# Altium integrated library Linear Technology Operational Amplifiers (LT2000-LT6000).IntLib: 1710 symbols (part 33 of 75)
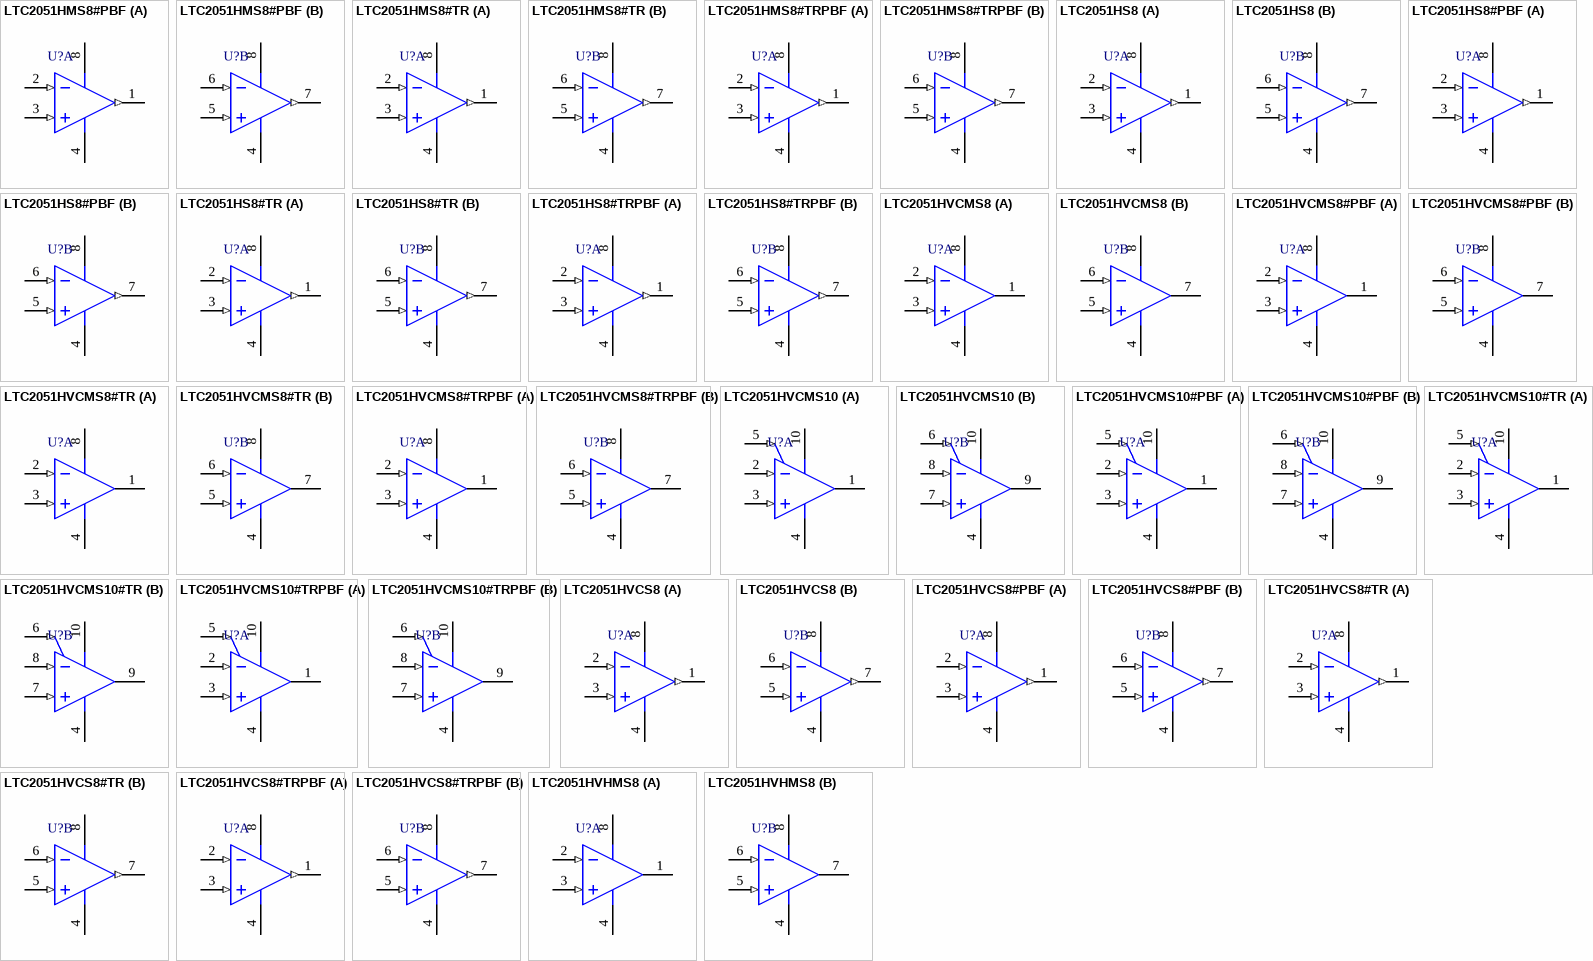
[diagram p112: symbols LTC2051HMS8#PBF to LTC2051HVHMS8]

## LTC2051HVCS8#TR
designator U?
Dual Channel, Zero-Drift Operational Amplifier, 3 MHz Typical GBW, 2 V/us Typical SR, 2.7 to 11 V, 8-Pin SOIC (S8-8), Commercial, Reel; Linear Technology Part Number: LTC2051HV; Manufacturer: Linear Technology; PartNumber: LTC2051HVCS8#TR; Channels (#): 2; GBW (MHz) Typical: 3; Is (mA) Typical: 0.85; Vos (mV) Typical: 0.0005; Vs Max (V): 11; Vs Min (V): 2.7; DatasheetVersion: Rev. D; PackageVersion: Rev G; PackageReference: LT-S8-8; PackageDescription: 8-Pin Plastic Small Outline, Body 4.9 x 3.9 mm, Pitch 1.27 mm; Supplier 1: Digi-Key; Supplier Part Number 1: LTC2051HVCS8#TR-ND; Packing: Reel; SR (V/us) Typical: 2; Type: ZD; Mounting Technology: Surface Mount; ComponentLink1Description: Manufacturer URL; ComponentLink1URL: http://www.linear.com/; ComponentLink2Description: Datasheet; ComponentLink2URL: http://cds.linear.com/docs/en/datasheet/20512fd.pdf; ComponentLink3Description: Package Specification; ComponentLink3URL: http://cds.linear.com/docs/en/packaging/05081610_G_SO8.pdf
footprint LT-S8-8_N (SOIC, 8-Leads, Body 4.9x3.9mm, Pitch 1.27mm, IPC Medium Density)
footprint LT-S8-8_L (SOIC, 8-Leads, Body 4.9x3.9mm, Pitch 1.27mm, IPC High Density)
footprint LT-S8-8_M (SOIC, 8-Leads, Body 4.9x3.9mm, Pitch 1.27mm, IPC Low Density)
pins on every part: 4 V- (power), 8 V+ (power)
part A pins: 1 OUT A (out), 2 -IN A (in), 3 +IN A (in)
part B pins: 5 +IN B (in), 6 -IN B (in), 7 OUT B (out)

## LTC2051HVCS8#TRPBF
designator U?
Dual Channel, Zero-Drift Operational Amplifier, 3 MHz Typical GBW, 2 V/us Typical SR, 2.7 to 11 V, 8-Pin SOIC (S8-8), Commercial, Pb-Free, Reel; Linear Technology Part Number: LTC2051HV; Manufacturer: Linear Technology; PartNumber: LTC2051HVCS8#TRPBF; Channels (#): 2; GBW (MHz) Typical: 3; Is (mA) Typical: 0.85; Vos (mV) Typical: 0.0005; Vs Max (V): 11; Vs Min (V): 2.7; DatasheetVersion: Rev. D; PackageVersion: Rev G; PackageReference: LT-S8-8; PackageDescription: 8-Pin Plastic Small Outline, Body 4.9 x 3.9 mm, Pitch 1.27 mm; Supplier 1: Digi-Key; Supplier Part Number 1: LTC2051HVCS8#TRPBF-ND; Packing: Reel; RoHS: Pb-Free; SR (V/us) Typical: 2; Type: ZD; Mounting Technology: Surface Mount; ComponentLink1Description: Manufacturer URL; ComponentLink1URL: http://www.linear.com/; ComponentLink2Description: Datasheet; ComponentLink2URL: http://cds.linear.com/docs/en/datasheet/20512fd.pdf; ComponentLink3Description: Package Specification; ComponentLink3URL: http://cds.linear.com/docs/en/packaging/05081610_G_SO8.pdf
footprint LT-S8-8_N (SOIC, 8-Leads, Body 4.9x3.9mm, Pitch 1.27mm, IPC Medium Density)
footprint LT-S8-8_L (SOIC, 8-Leads, Body 4.9x3.9mm, Pitch 1.27mm, IPC High Density)
footprint LT-S8-8_M (SOIC, 8-Leads, Body 4.9x3.9mm, Pitch 1.27mm, IPC Low Density)
pins on every part: 4 V- (power), 8 V+ (power)
part A pins: 1 OUT A (out), 2 -IN A (in), 3 +IN A (in)
part B pins: 5 +IN B (in), 6 -IN B (in), 7 OUT B (out)

## LTC2051HVHMS8
designator U?
Dual Channel, Zero-Drift Operational Amplifier, 3 MHz Typical GBW, 2 V/us Typical SR, 2.7 to 11 V, 8-Pin SOP (MS8-8), High Temperature / Automotive; Linear Technology Part Number: LTC2051HV; Manufacturer: Linear Technology; PartNumber: LTC2051HVHMS8; Channels (#): 2; GBW (MHz) Typical: 3; Is (mA) Typical: 0.85; Vos (mV) Typical: 0.0005; Vs Max (V): 11; Vs Min (V): 2.7; DatasheetVersion: Rev. D; PackageVersion: Rev G; PackageReference: LT-MS8-8; PackageDescription: 8-Lead Plastic Small Outline, Body 3.9 x 4.9 mm, Pitch 1.27 mm; Supplier 1: Digi-Key; Supplier Part Number 1: LTC2051HVHMS8-ND; SR (V/us) Typical: 2; Type: ZD; Mounting Technology: Surface Mount; ComponentLink1Description: Manufacturer URL; ComponentLink1URL: http://www.linear.com/; ComponentLink2Description: Datasheet; ComponentLink2URL: http://cds.linear.com/docs/en/datasheet/20512fd.pdf; ComponentLink3Description: Package Specification; ComponentLink3URL: http://cds.linear.com/docs/en/packaging/05081610_G_SO8.pdf
footprint LT-MS8-8_N (SOP, 8-Leads, Body 3x3mm, Pitch 0.65mm, IPC Medium Density)
footprint LT-MS8-8_L (SOP, 8-Leads, Body 3x3mm, Pitch 0.65mm, IPC High Density)
footprint LT-MS8-8_M (SOP, 8-Leads, Body 3x3mm, Pitch 0.65mm, IPC Low Density)
pins on every part: 4 V- (power), 8 V+ (power)
part A pins: 1 OUT A (hiz), 2 -IN A (in), 3 +IN A (in)
part B pins: 5 +IN B (in), 6 -IN B (in), 7 OUT B (hiz)

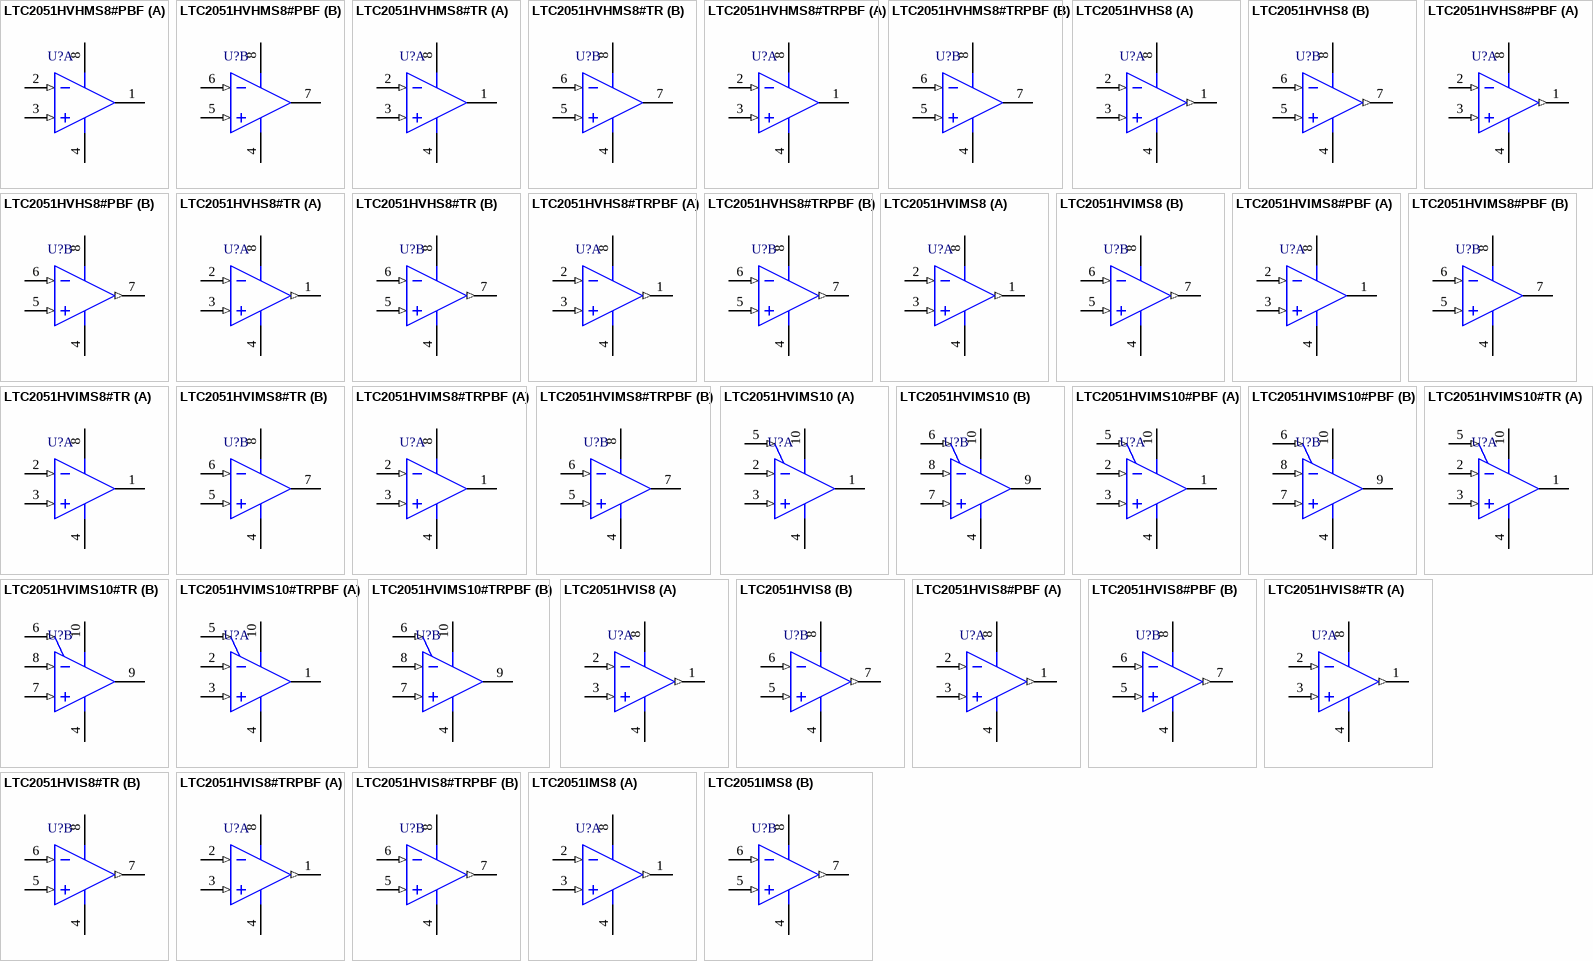
[diagram p40: symbols LTC2051HVHMS8#PBF to LTC2051IMS8]

## LTC2051HVHMS8#PBF
designator U?
Dual Channel, Zero-Drift Operational Amplifier, 3 MHz Typical GBW, 2 V/us Typical SR, 2.7 to 11 V, 8-Pin SOP (MS8-8), High Temperature / Automotive, Pb-Free; Linear Technology Part Number: LTC2051HV; Manufacturer: Linear Technology; PartNumber: LTC2051HVHMS8#PBF; Channels (#): 2; GBW (MHz) Typical: 3; Is (mA) Typical: 0.85; Vos (mV) Typical: 0.0005; Vs Max (V): 11; Vs Min (V): 2.7; DatasheetVersion: Rev. D; PackageVersion: Rev G; PackageReference: LT-MS8-8; PackageDescription: 8-Lead Plastic Small Outline, Body 3.9 x 4.9 mm, Pitch 1.27 mm; Supplier 1: Digi-Key; Supplier Part Number 1: LTC2051HVHMS8#PBF-ND; Supplier 2: Farnell; Supplier Part Number 2: 1330910; RoHS: Pb-Free; SR (V/us) Typical: 2; Type: ZD; Mounting Technology: Surface Mount; ComponentLink1Description: Manufacturer URL; ComponentLink1URL: http://www.linear.com/; ComponentLink2Description: Datasheet; ComponentLink2URL: http://cds.linear.com/docs/en/datasheet/20512fd.pdf; ComponentLink3Description: Package Specification; ComponentLink3URL: http://cds.linear.com/docs/en/packaging/05081610_G_SO8.pdf
footprint LT-MS8-8_N (SOP, 8-Leads, Body 3x3mm, Pitch 0.65mm, IPC Medium Density)
footprint LT-MS8-8_L (SOP, 8-Leads, Body 3x3mm, Pitch 0.65mm, IPC High Density)
footprint LT-MS8-8_M (SOP, 8-Leads, Body 3x3mm, Pitch 0.65mm, IPC Low Density)
pins on every part: 4 V- (power), 8 V+ (power)
part A pins: 1 OUT A (hiz), 2 -IN A (in), 3 +IN A (in)
part B pins: 5 +IN B (in), 6 -IN B (in), 7 OUT B (hiz)

## LTC2051HVHMS8#TR
designator U?
Dual Channel, Zero-Drift Operational Amplifier, 3 MHz Typical GBW, 2 V/us Typical SR, 2.7 to 11 V, 8-Pin SOP (MS8-8), High Temperature / Automotive, Reel; Linear Technology Part Number: LTC2051HV; Manufacturer: Linear Technology; PartNumber: LTC2051HVHMS8#TR; Channels (#): 2; GBW (MHz) Typical: 3; Is (mA) Typical: 0.85; Vos (mV) Typical: 0.0005; Vs Max (V): 11; Vs Min (V): 2.7; DatasheetVersion: Rev. D; PackageVersion: Rev G; PackageReference: LT-MS8-8; PackageDescription: 8-Lead Plastic Small Outline, Body 3.9 x 4.9 mm, Pitch 1.27 mm; Supplier 1: Digi-Key; Supplier Part Number 1: LTC2051HVHMS8TR-ND; Packing: Reel; SR (V/us) Typical: 2; Type: ZD; Mounting Technology: Surface Mount; ComponentLink1Description: Manufacturer URL; ComponentLink1URL: http://www.linear.com/; ComponentLink2Description: Datasheet; ComponentLink2URL: http://cds.linear.com/docs/en/datasheet/20512fd.pdf; ComponentLink3Description: Package Specification; ComponentLink3URL: http://cds.linear.com/docs/en/packaging/05081610_G_SO8.pdf
footprint LT-MS8-8_N (SOP, 8-Leads, Body 3x3mm, Pitch 0.65mm, IPC Medium Density)
footprint LT-MS8-8_L (SOP, 8-Leads, Body 3x3mm, Pitch 0.65mm, IPC High Density)
footprint LT-MS8-8_M (SOP, 8-Leads, Body 3x3mm, Pitch 0.65mm, IPC Low Density)
pins on every part: 4 V- (power), 8 V+ (power)
part A pins: 1 OUT A (hiz), 2 -IN A (in), 3 +IN A (in)
part B pins: 5 +IN B (in), 6 -IN B (in), 7 OUT B (hiz)

## LTC2051HVHMS8#TRPBF
designator U?
Dual Channel, Zero-Drift Operational Amplifier, 3 MHz Typical GBW, 2 V/us Typical SR, 2.7 to 11 V, 8-Pin SOP (MS8-8), High Temperature / Automotive, Pb-Free, Reel; Linear Technology Part Number: LTC2051HV; Manufacturer: Linear Technology; PartNumber: LTC2051HVHMS8#TRPBF; Channels (#): 2; GBW (MHz) Typical: 3; Is (mA) Typical: 0.85; Vos (mV) Typical: 0.0005; Vs Max (V): 11; Vs Min (V): 2.7; DatasheetVersion: Rev. D; PackageVersion: Rev G; PackageReference: LT-MS8-8; PackageDescription: 8-Lead Plastic Small Outline, Body 3.9 x 4.9 mm, Pitch 1.27 mm; Supplier 1: Digi-Key; Supplier Part Number 1: LTC2051HVHMS8#TRPBF-ND; Packing: Reel; RoHS: Pb-Free; SR (V/us) Typical: 2; Type: ZD; Mounting Technology: Surface Mount; ComponentLink1Description: Manufacturer URL; ComponentLink1URL: http://www.linear.com/; ComponentLink2Description: Datasheet; ComponentLink2URL: http://cds.linear.com/docs/en/datasheet/20512fd.pdf; ComponentLink3Description: Package Specification; ComponentLink3URL: http://cds.linear.com/docs/en/packaging/05081610_G_SO8.pdf
footprint LT-MS8-8_N (SOP, 8-Leads, Body 3x3mm, Pitch 0.65mm, IPC Medium Density)
footprint LT-MS8-8_L (SOP, 8-Leads, Body 3x3mm, Pitch 0.65mm, IPC High Density)
footprint LT-MS8-8_M (SOP, 8-Leads, Body 3x3mm, Pitch 0.65mm, IPC Low Density)
pins on every part: 4 V- (power), 8 V+ (power)
part A pins: 1 OUT A (hiz), 2 -IN A (in), 3 +IN A (in)
part B pins: 5 +IN B (in), 6 -IN B (in), 7 OUT B (hiz)

## LTC2051HVHS8
designator U?
Dual Channel, Zero-Drift Operational Amplifier, 3 MHz Typical GBW, 2 V/us Typical SR, 2.7 to 11 V, 8-Pin SOIC (S8-8), High Temperature / Automotive; Linear Technology Part Number: LTC2051HV; Manufacturer: Linear Technology; PartNumber: LTC2051HVHS8; Channels (#): 2; GBW (MHz) Typical: 3; Is (mA) Typical: 0.85; Vos (mV) Typical: 0.0005; Vs Max (V): 11; Vs Min (V): 2.7; DatasheetVersion: Rev. D; PackageVersion: Rev G; PackageReference: LT-S8-8; PackageDescription: 8-Pin Plastic Small Outline, Body 4.9 x 3.9 mm, Pitch 1.27 mm; Supplier 1: Digi-Key; Supplier Part Number 1: LTC2051HVHS8-ND; SR (V/us) Typical: 2; Type: ZD; Mounting Technology: Surface Mount; ComponentLink1Description: Manufacturer URL; ComponentLink1URL: http://www.linear.com/; ComponentLink2Description: Datasheet; ComponentLink2URL: http://cds.linear.com/docs/en/datasheet/20512fd.pdf; ComponentLink3Description: Package Specification; ComponentLink3URL: http://cds.linear.com/docs/en/packaging/05081610_G_SO8.pdf
footprint LT-S8-8_N (SOIC, 8-Leads, Body 4.9x3.9mm, Pitch 1.27mm, IPC Medium Density)
footprint LT-S8-8_L (SOIC, 8-Leads, Body 4.9x3.9mm, Pitch 1.27mm, IPC High Density)
footprint LT-S8-8_M (SOIC, 8-Leads, Body 4.9x3.9mm, Pitch 1.27mm, IPC Low Density)
pins on every part: 4 V- (power), 8 V+ (power)
part A pins: 1 OUT A (out), 2 -IN A (in), 3 +IN A (in)
part B pins: 5 +IN B (in), 6 -IN B (in), 7 OUT B (out)

## LTC2051HVHS8#PBF
designator U?
Dual Channel, Zero-Drift Operational Amplifier, 3 MHz Typical GBW, 2 V/us Typical SR, 2.7 to 11 V, 8-Pin SOIC (S8-8), High Temperature / Automotive, Pb-Free; Linear Technology Part Number: LTC2051HV; Manufacturer: Linear Technology; PartNumber: LTC2051HVHS8#PBF; Channels (#): 2; GBW (MHz) Typical: 3; Is (mA) Typical: 0.85; Vos (mV) Typical: 0.0005; Vs Max (V): 11; Vs Min (V): 2.7; DatasheetVersion: Rev. D; PackageVersion: Rev G; PackageReference: LT-S8-8; PackageDescription: 8-Pin Plastic Small Outline, Body 4.9 x 3.9 mm, Pitch 1.27 mm; Supplier 1: Digi-Key; Supplier Part Number 1: LTC2051HVHS8#PBF-ND; Supplier 2: Farnell; Supplier Part Number 2: 1663678; Supplier 3: Newark; Supplier Part Number 3: 56M4622; RoHS: Pb-Free; SR (V/us) Typical: 2; Type: ZD; Mounting Technology: Surface Mount; ComponentLink1Description: Manufacturer URL; ComponentLink1URL: http://www.linear.com/; ComponentLink2Description: Datasheet; ComponentLink2URL: http://cds.linear.com/docs/en/datasheet/20512fd.pdf; ComponentLink3Description: Package Specification; ComponentLink3URL: http://cds.linear.com/docs/en/packaging/05081610_G_SO8.pdf
footprint LT-S8-8_N (SOIC, 8-Leads, Body 4.9x3.9mm, Pitch 1.27mm, IPC Medium Density)
footprint LT-S8-8_L (SOIC, 8-Leads, Body 4.9x3.9mm, Pitch 1.27mm, IPC High Density)
footprint LT-S8-8_M (SOIC, 8-Leads, Body 4.9x3.9mm, Pitch 1.27mm, IPC Low Density)
pins on every part: 4 V- (power), 8 V+ (power)
part A pins: 1 OUT A (out), 2 -IN A (in), 3 +IN A (in)
part B pins: 5 +IN B (in), 6 -IN B (in), 7 OUT B (out)

## LTC2051HVHS8#TR
designator U?
Dual Channel, Zero-Drift Operational Amplifier, 3 MHz Typical GBW, 2 V/us Typical SR, 2.7 to 11 V, 8-Pin SOIC (S8-8), High Temperature / Automotive, Reel; Linear Technology Part Number: LTC2051HV; Manufacturer: Linear Technology; PartNumber: LTC2051HVHS8#TR; Channels (#): 2; GBW (MHz) Typical: 3; Is (mA) Typical: 0.85; Vos (mV) Typical: 0.0005; Vs Max (V): 11; Vs Min (V): 2.7; DatasheetVersion: Rev. D; PackageVersion: Rev G; PackageReference: LT-S8-8; PackageDescription: 8-Pin Plastic Small Outline, Body 4.9 x 3.9 mm, Pitch 1.27 mm; Supplier 1: Digi-Key; Supplier Part Number 1: LTC2051HVHS8TR-ND; Packing: Reel; SR (V/us) Typical: 2; Type: ZD; Mounting Technology: Surface Mount; ComponentLink1Description: Manufacturer URL; ComponentLink1URL: http://www.linear.com/; ComponentLink2Description: Datasheet; ComponentLink2URL: http://cds.linear.com/docs/en/datasheet/20512fd.pdf; ComponentLink3Description: Package Specification; ComponentLink3URL: http://cds.linear.com/docs/en/packaging/05081610_G_SO8.pdf
footprint LT-S8-8_N (SOIC, 8-Leads, Body 4.9x3.9mm, Pitch 1.27mm, IPC Medium Density)
footprint LT-S8-8_L (SOIC, 8-Leads, Body 4.9x3.9mm, Pitch 1.27mm, IPC High Density)
footprint LT-S8-8_M (SOIC, 8-Leads, Body 4.9x3.9mm, Pitch 1.27mm, IPC Low Density)
pins on every part: 4 V- (power), 8 V+ (power)
part A pins: 1 OUT A (out), 2 -IN A (in), 3 +IN A (in)
part B pins: 5 +IN B (in), 6 -IN B (in), 7 OUT B (out)

## LTC2051HVHS8#TRPBF
designator U?
Dual Channel, Zero-Drift Operational Amplifier, 3 MHz Typical GBW, 2 V/us Typical SR, 2.7 to 11 V, 8-Pin SOIC (S8-8), High Temperature / Automotive, Pb-Free, Reel; Linear Technology Part Number: LTC2051HV; Manufacturer: Linear Technology; PartNumber: LTC2051HVHS8#TRPBF; Channels (#): 2; GBW (MHz) Typical: 3; Is (mA) Typical: 0.85; Vos (mV) Typical: 0.0005; Vs Max (V): 11; Vs Min (V): 2.7; DatasheetVersion: Rev. D; PackageVersion: Rev G; PackageReference: LT-S8-8; PackageDescription: 8-Pin Plastic Small Outline, Body 4.9 x 3.9 mm, Pitch 1.27 mm; Supplier 1: Digi-Key; Supplier Part Number 1: LTC2051HVHS8#TRPBF-ND; Supplier 2: Newark; Supplier Part Number 2: 56M4624; Packing: Reel; RoHS: Pb-Free; SR (V/us) Typical: 2; Type: ZD; Mounting Technology: Surface Mount; ComponentLink1Description: Manufacturer URL; ComponentLink1URL: http://www.linear.com/; ComponentLink2Description: Datasheet; ComponentLink2URL: http://cds.linear.com/docs/en/datasheet/20512fd.pdf; ComponentLink3Description: Package Specification; ComponentLink3URL: http://cds.linear.com/docs/en/packaging/05081610_G_SO8.pdf
footprint LT-S8-8_N (SOIC, 8-Leads, Body 4.9x3.9mm, Pitch 1.27mm, IPC Medium Density)
footprint LT-S8-8_L (SOIC, 8-Leads, Body 4.9x3.9mm, Pitch 1.27mm, IPC High Density)
footprint LT-S8-8_M (SOIC, 8-Leads, Body 4.9x3.9mm, Pitch 1.27mm, IPC Low Density)
pins on every part: 4 V- (power), 8 V+ (power)
part A pins: 1 OUT A (out), 2 -IN A (in), 3 +IN A (in)
part B pins: 5 +IN B (in), 6 -IN B (in), 7 OUT B (out)

## LTC2051HVIMS8
designator U?
Dual Channel, Zero-Drift Operational Amplifier, 3 MHz Typical GBW, 2 V/us Typical SR, 2.7 to 11 V, 8-Pin SOP (MS8-8), Industrial; Linear Technology Part Number: LTC2051HV; Manufacturer: Linear Technology; PartNumber: LTC2051HVIMS8; Channels (#): 2; GBW (MHz) Typical: 3; Is (mA) Typical: 0.85; Vos (mV) Typical: 0.0005; Vs Max (V): 11; Vs Min (V): 2.7; DatasheetVersion: Rev. D; PackageVersion: Rev G; PackageReference: LT-MS8-8; PackageDescription: 8-Lead Plastic Small Outline, Body 3.9 x 4.9 mm, Pitch 1.27 mm; Supplier 1: Digi-Key; Supplier Part Number 1: LTC2051HVIMS8-ND; SR (V/us) Typical: 2; Type: ZD; Mounting Technology: Surface Mount; ComponentLink1Description: Manufacturer URL; ComponentLink1URL: http://www.linear.com/; ComponentLink2Description: Datasheet; ComponentLink2URL: http://cds.linear.com/docs/en/datasheet/20512fd.pdf; ComponentLink3Description: Package Specification; ComponentLink3URL: http://cds.linear.com/docs/en/packaging/05081610_G_SO8.pdf
footprint LT-MS8-8_N (SOP, 8-Leads, Body 3x3mm, Pitch 0.65mm, IPC Medium Density)
footprint LT-MS8-8_L (SOP, 8-Leads, Body 3x3mm, Pitch 0.65mm, IPC High Density)
footprint LT-MS8-8_M (SOP, 8-Leads, Body 3x3mm, Pitch 0.65mm, IPC Low Density)
pins on every part: 4 V- (power) "Positive Supply Voltage of Blue Channel Amplifi er. This pin is not internally connected to other supply voltage pins and must be externally connected to the supply voltage bus with proper bypassing for best performance, see (See Datasheet)", 8 V+ (power) "Positive Supply Voltage of Control Circuitry. This pin is not internally connected to other supply voltage pins and must be externally connected to supply voltage bus with proper bypassing for best performance, see Power (See Datasheet)"
part A pins: 1 OUT A (out), 2 -IN A (in), 3 +IN A (in)
part B pins: 5 +IN B (in), 6 -IN B (in), 7 OUT B (out)

## LTC2051HVIMS8#PBF
designator U?
Dual Channel, Zero-Drift Operational Amplifier, 3 MHz Typical GBW, 2 V/us Typical SR, 2.7 to 11 V, 8-Pin SOP (MS8-8), Industrial, Pb-Free; Linear Technology Part Number: LTC2051HV; Manufacturer: Linear Technology; PartNumber: LTC2051HVIMS8#PBF; Channels (#): 2; GBW (MHz) Typical: 3; Is (mA) Typical: 0.85; Vos (mV) Typical: 0.0005; Vs Max (V): 11; Vs Min (V): 2.7; DatasheetVersion: Rev. D; PackageVersion: Rev G; PackageReference: LT-MS8-8; PackageDescription: 8-Lead Plastic Small Outline, Body 3.9 x 4.9 mm, Pitch 1.27 mm; Supplier 1: Digi-Key; Supplier Part Number 1: LTC2051HVIMS8#PBF-ND; Supplier 2: Farnell; Supplier Part Number 2: 1663679; Supplier 3: Newark; Supplier Part Number 3: 56M4634; RoHS: Pb-Free; SR (V/us) Typical: 2; Type: ZD; Mounting Technology: Surface Mount; ComponentLink1Description: Manufacturer URL; ComponentLink1URL: http://www.linear.com/; ComponentLink2Description: Datasheet; ComponentLink2URL: http://cds.linear.com/docs/en/datasheet/20512fd.pdf; ComponentLink3Description: Package Specification; ComponentLink3URL: http://cds.linear.com/docs/en/packaging/05081610_G_SO8.pdf
footprint LT-MS8-8_N (SOP, 8-Leads, Body 3x3mm, Pitch 0.65mm, IPC Medium Density)
footprint LT-MS8-8_L (SOP, 8-Leads, Body 3x3mm, Pitch 0.65mm, IPC High Density)
footprint LT-MS8-8_M (SOP, 8-Leads, Body 3x3mm, Pitch 0.65mm, IPC Low Density)
pins on every part: 4 V- (power), 8 V+ (power)
part A pins: 1 OUT A (hiz), 2 -IN A (in), 3 +IN A (in)
part B pins: 5 +IN B (in), 6 -IN B (in), 7 OUT B (hiz)

## LTC2051HVIMS8#TR
designator U?
Dual Channel, Zero-Drift Operational Amplifier, 3 MHz Typical GBW, 2 V/us Typical SR, 2.7 to 11 V, 8-Pin SOP (MS8-8), Industrial, Reel; Linear Technology Part Number: LTC2051HV; Manufacturer: Linear Technology; PartNumber: LTC2051HVIMS8#TR; Channels (#): 2; GBW (MHz) Typical: 3; Is (mA) Typical: 0.85; Vos (mV) Typical: 0.0005; Vs Max (V): 11; Vs Min (V): 2.7; DatasheetVersion: Rev. D; PackageVersion: Rev G; PackageReference: LT-MS8-8; PackageDescription: 8-Lead Plastic Small Outline, Body 3.9 x 4.9 mm, Pitch 1.27 mm; Supplier 1: Digi-Key; Supplier Part Number 1: LTC2051HVIMS8#TR-ND; Packing: Reel; SR (V/us) Typical: 2; Type: ZD; Mounting Technology: Surface Mount; ComponentLink1Description: Manufacturer URL; ComponentLink1URL: http://www.linear.com/; ComponentLink2Description: Datasheet; ComponentLink2URL: http://cds.linear.com/docs/en/datasheet/20512fd.pdf; ComponentLink3Description: Package Specification; ComponentLink3URL: http://cds.linear.com/docs/en/packaging/05081610_G_SO8.pdf
footprint LT-MS8-8_N (SOP, 8-Leads, Body 3x3mm, Pitch 0.65mm, IPC Medium Density)
footprint LT-MS8-8_L (SOP, 8-Leads, Body 3x3mm, Pitch 0.65mm, IPC High Density)
footprint LT-MS8-8_M (SOP, 8-Leads, Body 3x3mm, Pitch 0.65mm, IPC Low Density)
pins on every part: 4 V- (power), 8 V+ (power)
part A pins: 1 OUT A (hiz), 2 -IN A (in), 3 +IN A (in)
part B pins: 5 +IN B (in), 6 -IN B (in), 7 OUT B (hiz)

## LTC2051HVIMS8#TRPBF
designator U?
Dual Channel, Zero-Drift Operational Amplifier, 3 MHz Typical GBW, 2 V/us Typical SR, 2.7 to 11 V, 8-Pin SOP (MS8-8), Industrial, Pb-Free, Reel; Linear Technology Part Number: LTC2051HV; Manufacturer: Linear Technology; PartNumber: LTC2051HVIMS8#TRPBF; Channels (#): 2; GBW (MHz) Typical: 3; Is (mA) Typical: 0.85; Vos (mV) Typical: 0.0005; Vs Max (V): 11; Vs Min (V): 2.7; DatasheetVersion: Rev. D; PackageVersion: Rev G; PackageReference: LT-MS8-8; PackageDescription: 8-Lead Plastic Small Outline, Body 3.9 x 4.9 mm, Pitch 1.27 mm; Supplier 1: Digi-Key; Supplier Part Number 1: LTC2051HVIMS8#TRPBF-ND; Supplier 2: Newark; Supplier Part Number 2: 56M4636; Packing: Reel; RoHS: Pb-Free; SR (V/us) Typical: 2; Type: ZD; Mounting Technology: Surface Mount; ComponentLink1Description: Manufacturer URL; ComponentLink1URL: http://www.linear.com/; ComponentLink2Description: Datasheet; ComponentLink2URL: http://cds.linear.com/docs/en/datasheet/20512fd.pdf; ComponentLink3Description: Package Specification; ComponentLink3URL: http://cds.linear.com/docs/en/packaging/05081610_G_SO8.pdf
footprint LT-MS8-8_N (SOP, 8-Leads, Body 3x3mm, Pitch 0.65mm, IPC Medium Density)
footprint LT-MS8-8_L (SOP, 8-Leads, Body 3x3mm, Pitch 0.65mm, IPC High Density)
footprint LT-MS8-8_M (SOP, 8-Leads, Body 3x3mm, Pitch 0.65mm, IPC Low Density)
pins on every part: 4 V- (power), 8 V+ (power)
part A pins: 1 OUT A (hiz), 2 -IN A (in), 3 +IN A (in)
part B pins: 5 +IN B (in), 6 -IN B (in), 7 OUT B (hiz)

## LTC2051HVIMS10
designator U?
Dual Channel, Zero-Drift Operational Amplifier, 3 MHz Typical GBW, 2 V/us Typical SR, 2.7 to 11 V, 10-Pin SOP (MS-10), Industrial; Linear Technology Part Number: LTC2051HV; Manufacturer: Linear Technology; PartNumber: LTC2051HVIMS10; Channels (#): 2; GBW (MHz) Typical: 3; Is (mA) Typical: 0.85; Vos (mV) Typical: 0.0005; Vs Max (V): 11; Vs Min (V): 2.7; DatasheetVersion: Rev. D; PackageVersion: Rev E; PackageReference: LT-MS-10; PackageDescription: 10-Lead Plastic MSOP, Body 3 x 3 mm, Pitch 0.5 mm; Supplier 1: Digi-Key; Supplier Part Number 1: LTC2051HVIMS10-ND; SR (V/us) Typical: 2; Type: ZD; Mounting Technology: Surface Mount; ComponentLink1Description: Manufacturer URL; ComponentLink1URL: http://www.linear.com/; ComponentLink2Description: Datasheet; ComponentLink2URL: http://cds.linear.com/docs/en/datasheet/20512fd.pdf; ComponentLink3Description: Package Specification; ComponentLink3URL: http://cds.linear.com/docs/en/packaging/MSOP_10_05-08-1661.pdf
footprint LT-MS-10_N (SOP, 10-Leads, Body 3x3mm, Pitch 0.50mm, IPC Medium Density)
footprint LT-MS-10_L (SOP, 10-Leads, Body 3x3mm, Pitch 0.50mm, IPC High Density)
footprint LT-MS-10_M (SOP, 10-Leads, Body 3x3mm, Pitch 0.50mm, IPC Low Density)
pins on every part: 4 V- (power), 10 V+ (power)
part A pins: 1 OUT A (hiz), 2 -IN A (in), 3 +IN A (in), 5 ~{SHDN A} (in)
part B pins: 6 ~{SHDN B} (in), 7 +IN B (in), 8 -IN B (in), 9 OUT B (hiz)

## LTC2051HVIMS10#PBF
designator U?
Dual Channel, Zero-Drift Operational Amplifier, 3 MHz Typical GBW, 2 V/us Typical SR, 2.7 to 11 V, 10-Pin SOP (MS-10), Industrial, Pb-Free; Linear Technology Part Number: LTC2051HV; Manufacturer: Linear Technology; PartNumber: LTC2051HVIMS10#PBF; Channels (#): 2; GBW (MHz) Typical: 3; Is (mA) Typical: 0.85; Vos (mV) Typical: 0.0005; Vs Max (V): 11; Vs Min (V): 2.7; DatasheetVersion: Rev. D; PackageVersion: Rev E; PackageReference: LT-MS-10; PackageDescription: 10-Lead Plastic MSOP, Body 3 x 3 mm, Pitch 0.5 mm; Supplier 1: Digi-Key; Supplier Part Number 1: LTC2051HVIMS10#PBF-ND; RoHS: Pb-Free; SR (V/us) Typical: 2; Type: ZD; Mounting Technology: Surface Mount; ComponentLink1Description: Manufacturer URL; ComponentLink1URL: http://www.linear.com/; ComponentLink2Description: Datasheet; ComponentLink2URL: http://cds.linear.com/docs/en/datasheet/20512fd.pdf; ComponentLink3Description: Package Specification; ComponentLink3URL: http://cds.linear.com/docs/en/packaging/MSOP_10_05-08-1661.pdf
footprint LT-MS-10_N (SOP, 10-Leads, Body 3x3mm, Pitch 0.50mm, IPC Medium Density)
footprint LT-MS-10_L (SOP, 10-Leads, Body 3x3mm, Pitch 0.50mm, IPC High Density)
footprint LT-MS-10_M (SOP, 10-Leads, Body 3x3mm, Pitch 0.50mm, IPC Low Density)
pins on every part: 4 V- (power), 10 V+ (power)
part A pins: 1 OUT A (hiz), 2 -IN A (in), 3 +IN A (in), 5 ~{SHDN A} (in)
part B pins: 6 ~{SHDN B} (in), 7 +IN B (in), 8 -IN B (in), 9 OUT B (hiz)

## LTC2051HVIMS10#TR
designator U?
Dual Channel, Zero-Drift Operational Amplifier, 3 MHz Typical GBW, 2 V/us Typical SR, 2.7 to 11 V, 10-Pin SOP (MS-10), Industrial, Reel; Linear Technology Part Number: LTC2051HV; Manufacturer: Linear Technology; PartNumber: LTC2051HVIMS10#TR; Channels (#): 2; GBW (MHz) Typical: 3; Is (mA) Typical: 0.85; Vos (mV) Typical: 0.0005; Vs Max (V): 11; Vs Min (V): 2.7; DatasheetVersion: Rev. D; PackageVersion: Rev E; PackageReference: LT-MS-10; PackageDescription: 10-Lead Plastic MSOP, Body 3 x 3 mm, Pitch 0.5 mm; Supplier 1: Digi-Key; Supplier Part Number 1: LTC2051HVIMS10#TR-ND; Packing: Reel; SR (V/us) Typical: 2; Type: ZD; Mounting Technology: Surface Mount; ComponentLink1Description: Manufacturer URL; ComponentLink1URL: http://www.linear.com/; ComponentLink2Description: Datasheet; ComponentLink2URL: http://cds.linear.com/docs/en/datasheet/20512fd.pdf; ComponentLink3Description: Package Specification; ComponentLink3URL: http://cds.linear.com/docs/en/packaging/MSOP_10_05-08-1661.pdf
footprint LT-MS-10_N (SOP, 10-Leads, Body 3x3mm, Pitch 0.50mm, IPC Medium Density)
footprint LT-MS-10_L (SOP, 10-Leads, Body 3x3mm, Pitch 0.50mm, IPC High Density)
footprint LT-MS-10_M (SOP, 10-Leads, Body 3x3mm, Pitch 0.50mm, IPC Low Density)
pins on every part: 4 V- (power), 10 V+ (power)
part A pins: 1 OUT A (hiz), 2 -IN A (in), 3 +IN A (in), 5 ~{SHDN A} (in)
part B pins: 6 ~{SHDN B} (in), 7 +IN B (in), 8 -IN B (in), 9 OUT B (hiz)

## LTC2051HVIMS10#TRPBF
designator U?
Dual Channel, Zero-Drift Operational Amplifier, 3 MHz Typical GBW, 2 V/us Typical SR, 2.7 to 11 V, 10-Pin SOP (MS-10), Industrial, Pb-Free, Reel; Linear Technology Part Number: LTC2051HV; Manufacturer: Linear Technology; PartNumber: LTC2051HVIMS10#TRPBF; Channels (#): 2; GBW (MHz) Typical: 3; Is (mA) Typical: 0.85; Vos (mV) Typical: 0.0005; Vs Max (V): 11; Vs Min (V): 2.7; DatasheetVersion: Rev. D; PackageVersion: Rev E; PackageReference: LT-MS-10; PackageDescription: 10-Lead Plastic MSOP, Body 3 x 3 mm, Pitch 0.5 mm; Supplier 1: Digi-Key; Supplier Part Number 1: LTC2051HVIMS10#TRPBF-ND; Supplier 2: Newark; Supplier Part Number 2: 56M4632; Packing: Reel; RoHS: Pb-Free; SR (V/us) Typical: 2; Type: ZD; Mounting Technology: Surface Mount; ComponentLink1Description: Manufacturer URL; ComponentLink1URL: http://www.linear.com/; ComponentLink2Description: Datasheet; ComponentLink2URL: http://cds.linear.com/docs/en/datasheet/20512fd.pdf; ComponentLink3Description: Package Specification; ComponentLink3URL: http://cds.linear.com/docs/en/packaging/MSOP_10_05-08-1661.pdf
footprint LT-MS-10_N (SOP, 10-Leads, Body 3x3mm, Pitch 0.50mm, IPC Medium Density)
footprint LT-MS-10_L (SOP, 10-Leads, Body 3x3mm, Pitch 0.50mm, IPC High Density)
footprint LT-MS-10_M (SOP, 10-Leads, Body 3x3mm, Pitch 0.50mm, IPC Low Density)
pins on every part: 4 V- (power), 10 V+ (power)
part A pins: 1 OUT A (hiz), 2 -IN A (in), 3 +IN A (in), 5 ~{SHDN A} (in)
part B pins: 6 ~{SHDN B} (in), 7 +IN B (in), 8 -IN B (in), 9 OUT B (hiz)

## LTC2051HVIS8
designator U?
Dual Channel, Zero-Drift Operational Amplifier, 3 MHz Typical GBW, 2 V/us Typical SR, 2.7 to 11 V, 8-Pin SOIC (S8-8), Industrial; Linear Technology Part Number: LTC2051HV; Manufacturer: Linear Technology; PartNumber: LTC2051HVIS8; Channels (#): 2; GBW (MHz) Typical: 3; Is (mA) Typical: 0.85; Vos (mV) Typical: 0.0005; Vs Max (V): 11; Vs Min (V): 2.7; DatasheetVersion: Rev. D; PackageVersion: Rev G; PackageReference: LT-S8-8; PackageDescription: 8-Pin Plastic Small Outline, Body 4.9 x 3.9 mm, Pitch 1.27 mm; Supplier 1: Digi-Key; Supplier Part Number 1: LTC2051HVIS8-ND; SR (V/us) Typical: 2; Type: ZD; Mounting Technology: Surface Mount; ComponentLink1Description: Manufacturer URL; ComponentLink1URL: http://www.linear.com/; ComponentLink2Description: Datasheet; ComponentLink2URL: http://cds.linear.com/docs/en/datasheet/20512fd.pdf; ComponentLink3Description: Package Specification; ComponentLink3URL: http://cds.linear.com/docs/en/packaging/05081610_G_SO8.pdf
footprint LT-S8-8_N (SOIC, 8-Leads, Body 4.9x3.9mm, Pitch 1.27mm, IPC Medium Density)
footprint LT-S8-8_L (SOIC, 8-Leads, Body 4.9x3.9mm, Pitch 1.27mm, IPC High Density)
footprint LT-S8-8_M (SOIC, 8-Leads, Body 4.9x3.9mm, Pitch 1.27mm, IPC Low Density)
pins on every part: 4 V- (power), 8 V+ (power)
part A pins: 1 OUT A (out), 2 -IN A (in), 3 +IN A (in)
part B pins: 5 +IN B (in), 6 -IN B (in), 7 OUT B (out)

## LTC2051HVIS8#PBF
designator U?
Dual Channel, Zero-Drift Operational Amplifier, 3 MHz Typical GBW, 2 V/us Typical SR, 2.7 to 11 V, 8-Pin SOIC (S8-8), Industrial, Pb-Free; Linear Technology Part Number: LTC2051HV; Manufacturer: Linear Technology; PartNumber: LTC2051HVIS8#PBF; Channels (#): 2; GBW (MHz) Typical: 3; Is (mA) Typical: 0.85; Vos (mV) Typical: 0.0005; Vs Max (V): 11; Vs Min (V): 2.7; DatasheetVersion: Rev. D; PackageVersion: Rev G; PackageReference: LT-S8-8; PackageDescription: 8-Pin Plastic Small Outline, Body 4.9 x 3.9 mm, Pitch 1.27 mm; Supplier 1: Digi-Key; Supplier Part Number 1: LTC2051HVIS8#PBF-ND; Supplier 2: Farnell; Supplier Part Number 2: 2294724; Supplier 3: Newark; Supplier Part Number 3: 56M4638; RoHS: Pb-Free; SR (V/us) Typical: 2; Type: ZD; Mounting Technology: Surface Mount; ComponentLink1Description: Manufacturer URL; ComponentLink1URL: http://www.linear.com/; ComponentLink2Description: Datasheet; ComponentLink2URL: http://cds.linear.com/docs/en/datasheet/20512fd.pdf; ComponentLink3Description: Package Specification; ComponentLink3URL: http://cds.linear.com/docs/en/packaging/05081610_G_SO8.pdf
footprint LT-S8-8_N (SOIC, 8-Leads, Body 4.9x3.9mm, Pitch 1.27mm, IPC Medium Density)
footprint LT-S8-8_L (SOIC, 8-Leads, Body 4.9x3.9mm, Pitch 1.27mm, IPC High Density)
footprint LT-S8-8_M (SOIC, 8-Leads, Body 4.9x3.9mm, Pitch 1.27mm, IPC Low Density)
pins on every part: 4 V- (power), 8 V+ (power)
part A pins: 1 OUT A (out), 2 -IN A (in), 3 +IN A (in)
part B pins: 5 +IN B (in), 6 -IN B (in), 7 OUT B (out)

## LTC2051HVIS8#TR
designator U?
Dual Channel, Zero-Drift Operational Amplifier, 3 MHz Typical GBW, 2 V/us Typical SR, 2.7 to 11 V, 8-Pin SOIC (S8-8), Industrial, Reel; Linear Technology Part Number: LTC2051HV; Manufacturer: Linear Technology; PartNumber: LTC2051HVIS8#TR; Channels (#): 2; GBW (MHz) Typical: 3; Is (mA) Typical: 0.85; Vos (mV) Typical: 0.0005; Vs Max (V): 11; Vs Min (V): 2.7; DatasheetVersion: Rev. D; PackageVersion: Rev G; PackageReference: LT-S8-8; PackageDescription: 8-Pin Plastic Small Outline, Body 4.9 x 3.9 mm, Pitch 1.27 mm; Supplier 1: Digi-Key; Supplier Part Number 1: LTC2051HVIS8#TR-ND; Packing: Reel; SR (V/us) Typical: 2; Type: ZD; Mounting Technology: Surface Mount; ComponentLink1Description: Manufacturer URL; ComponentLink1URL: http://www.linear.com/; ComponentLink2Description: Datasheet; ComponentLink2URL: http://cds.linear.com/docs/en/datasheet/20512fd.pdf; ComponentLink3Description: Package Specification; ComponentLink3URL: http://cds.linear.com/docs/en/packaging/05081610_G_SO8.pdf
footprint LT-S8-8_N (SOIC, 8-Leads, Body 4.9x3.9mm, Pitch 1.27mm, IPC Medium Density)
footprint LT-S8-8_L (SOIC, 8-Leads, Body 4.9x3.9mm, Pitch 1.27mm, IPC High Density)
footprint LT-S8-8_M (SOIC, 8-Leads, Body 4.9x3.9mm, Pitch 1.27mm, IPC Low Density)
pins on every part: 4 V- (power), 8 V+ (power)
part A pins: 1 OUT A (out), 2 -IN A (in), 3 +IN A (in)
part B pins: 5 +IN B (in), 6 -IN B (in), 7 OUT B (out)

## LTC2051HVIS8#TRPBF
designator U?
Dual Channel, Zero-Drift Operational Amplifier, 3 MHz Typical GBW, 2 V/us Typical SR, 2.7 to 11 V, 8-Pin SOIC (S8-8), Industrial, Pb-Free, Reel; Linear Technology Part Number: LTC2051HV; Manufacturer: Linear Technology; PartNumber: LTC2051HVIS8#TRPBF; Channels (#): 2; GBW (MHz) Typical: 3; Is (mA) Typical: 0.85; Vos (mV) Typical: 0.0005; Vs Max (V): 11; Vs Min (V): 2.7; DatasheetVersion: Rev. D; PackageVersion: Rev G; PackageReference: LT-S8-8; PackageDescription: 8-Pin Plastic Small Outline, Body 4.9 x 3.9 mm, Pitch 1.27 mm; Supplier 1: Digi-Key; Supplier Part Number 1: LTC2051HVIS8#TRPBF-ND; Packing: Reel; RoHS: Pb-Free; SR (V/us) Typical: 2; Type: ZD; Mounting Technology: Surface Mount; ComponentLink1Description: Manufacturer URL; ComponentLink1URL: http://www.linear.com/; ComponentLink2Description: Datasheet; ComponentLink2URL: http://cds.linear.com/docs/en/datasheet/20512fd.pdf; ComponentLink3Description: Package Specification; ComponentLink3URL: http://cds.linear.com/docs/en/packaging/05081610_G_SO8.pdf
footprint LT-S8-8_N (SOIC, 8-Leads, Body 4.9x3.9mm, Pitch 1.27mm, IPC Medium Density)
footprint LT-S8-8_L (SOIC, 8-Leads, Body 4.9x3.9mm, Pitch 1.27mm, IPC High Density)
footprint LT-S8-8_M (SOIC, 8-Leads, Body 4.9x3.9mm, Pitch 1.27mm, IPC Low Density)
pins on every part: 4 V- (power), 8 V+ (power)
part A pins: 1 OUT A (out), 2 -IN A (in), 3 +IN A (in)
part B pins: 5 +IN B (in), 6 -IN B (in), 7 OUT B (out)

## LTC2051IMS8
designator U?
Dual Channel, Zero-Drift Operational Amplifier, 3 MHz Typical GBW, 2 V/us Typical SR, 2.7 to 6 V, 8-Pin SOP (MS8-8), Industrial; Linear Technology Part Number: LTC2051; Manufacturer: Linear Technology; PartNumber: LTC2051IMS8; Channels (#): 2; GBW (MHz) Typical: 3; Is (mA) Typical: 0.85; Vos (mV) Typical: 0.0005; Vs Max (V): 6; Vs Min (V): 2.7; DatasheetVersion: Rev. D; PackageVersion: Rev G; PackageReference: LT-MS8-8; PackageDescription: 8-Lead Plastic Small Outline, Body 3.9 x 4.9 mm, Pitch 1.27 mm; Supplier 1: Digi-Key; Supplier Part Number 1: LTC2051IMS8-ND; Supplier 2: Newark; Supplier Part Number 2: 56M4649; SR (V/us) Typical: 2; Type: ZD; Mounting Technology: Surface Mount; ComponentLink1Description: Manufacturer URL; ComponentLink1URL: http://www.linear.com/; ComponentLink2Description: Datasheet; ComponentLink2URL: http://cds.linear.com/docs/en/datasheet/20512fd.pdf; ComponentLink3Description: Package Specification; ComponentLink3URL: http://cds.linear.com/docs/en/packaging/05081610_G_SO8.pdf
footprint LT-MS8-8_N (SOP, 8-Leads, Body 3x3mm, Pitch 0.65mm, IPC Medium Density)
footprint LT-MS8-8_L (SOP, 8-Leads, Body 3x3mm, Pitch 0.65mm, IPC High Density)
footprint LT-MS8-8_M (SOP, 8-Leads, Body 3x3mm, Pitch 0.65mm, IPC Low Density)
pins on every part: 4 V- (power) "Positive Supply Voltage of Blue Channel Amplifi er. This pin is not internally connected to other supply voltage pins and must be externally connected to the supply voltage bus with proper bypassing for best performance, see (See Datasheet)", 8 V+ (power) "Positive Supply Voltage of Control Circuitry. This pin is not internally connected to other supply voltage pins and must be externally connected to supply voltage bus with proper bypassing for best performance, see Power (See Datasheet)"
part A pins: 1 OUT A (out), 2 -IN A (in), 3 +IN A (in)
part B pins: 5 +IN B (in), 6 -IN B (in), 7 OUT B (out)

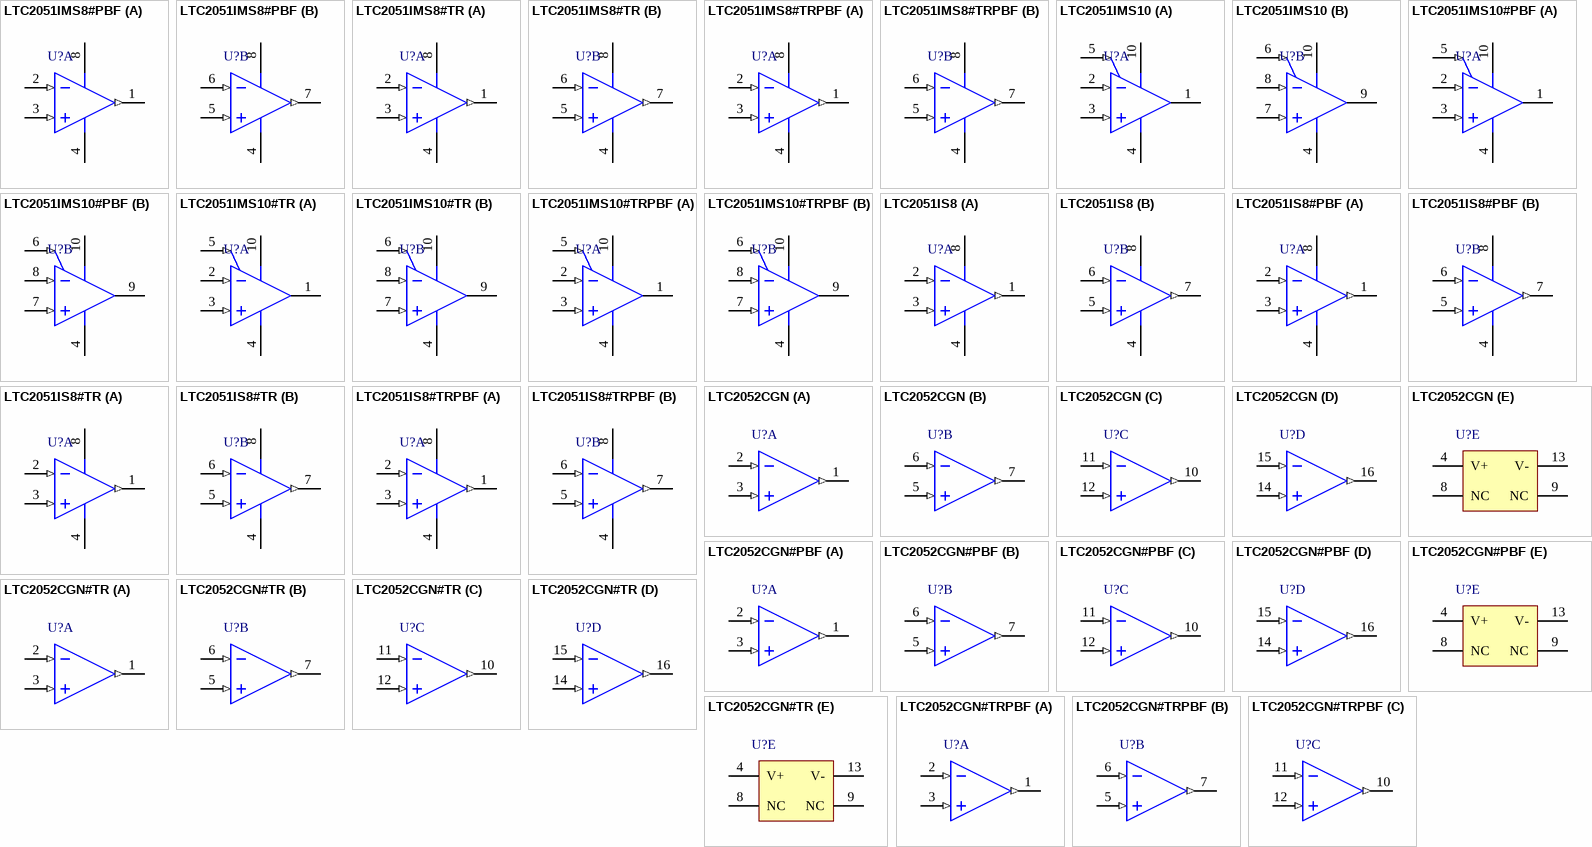
[diagram p41: symbols LTC2051IMS8#PBF to LTC2052CGN#TRPBF]

## LTC2051IMS8#PBF
designator U?
Dual Channel, Zero-Drift Operational Amplifier, 3 MHz Typical GBW, 2 V/us Typical SR, 2.7 to 6 V, 8-Pin SOP (MS8-8), Industrial, Pb-Free; Linear Technology Part Number: LTC2051; Manufacturer: Linear Technology; PartNumber: LTC2051IMS8#PBF; Channels (#): 2; GBW (MHz) Typical: 3; Is (mA) Typical: 0.85; Vos (mV) Typical: 0.0005; Vs Max (V): 6; Vs Min (V): 2.7; DatasheetVersion: Rev. D; PackageVersion: Rev G; PackageReference: LT-MS8-8; PackageDescription: 8-Lead Plastic Small Outline, Body 3.9 x 4.9 mm, Pitch 1.27 mm; Supplier 1: Digi-Key; Supplier Part Number 1: LTC2051IMS8#PBF-ND; Supplier 2: Farnell; Supplier Part Number 2: 2294726; Supplier 3: Newark; Supplier Part Number 3: 56M4650; RoHS: Pb-Free; SR (V/us) Typical: 2; Type: ZD; Mounting Technology: Surface Mount; ComponentLink1Description: Manufacturer URL; ComponentLink1URL: http://www.linear.com/; ComponentLink2Description: Datasheet; ComponentLink2URL: http://cds.linear.com/docs/en/datasheet/20512fd.pdf; ComponentLink3Description: Package Specification; ComponentLink3URL: http://cds.linear.com/docs/en/packaging/05081610_G_SO8.pdf
footprint LT-MS8-8_N (SOP, 8-Leads, Body 3x3mm, Pitch 0.65mm, IPC Medium Density)
footprint LT-MS8-8_L (SOP, 8-Leads, Body 3x3mm, Pitch 0.65mm, IPC High Density)
footprint LT-MS8-8_M (SOP, 8-Leads, Body 3x3mm, Pitch 0.65mm, IPC Low Density)
pins on every part: 4 V- (power) "Positive Supply Voltage of Blue Channel Amplifi er. This pin is not internally connected to other supply voltage pins and must be externally connected to the supply voltage bus with proper bypassing for best performance, see (See Datasheet)", 8 V+ (power) "Positive Supply Voltage of Control Circuitry. This pin is not internally connected to other supply voltage pins and must be externally connected to supply voltage bus with proper bypassing for best performance, see Power (See Datasheet)"
part A pins: 1 OUT A (out), 2 -IN A (in), 3 +IN A (in)
part B pins: 5 +IN B (in), 6 -IN B (in), 7 OUT B (out)

## LTC2051IMS8#TR
designator U?
Dual Channel, Zero-Drift Operational Amplifier, 3 MHz Typical GBW, 2 V/us Typical SR, 2.7 to 6 V, 8-Pin SOP (MS8-8), Industrial, Reel; Linear Technology Part Number: LTC2051; Manufacturer: Linear Technology; PartNumber: LTC2051IMS8#TR; Channels (#): 2; GBW (MHz) Typical: 3; Is (mA) Typical: 0.85; Vos (mV) Typical: 0.0005; Vs Max (V): 6; Vs Min (V): 2.7; DatasheetVersion: Rev. D; PackageVersion: Rev G; PackageReference: LT-MS8-8; PackageDescription: 8-Lead Plastic Small Outline, Body 3.9 x 4.9 mm, Pitch 1.27 mm; Supplier 1: Digi-Key; Supplier Part Number 1: LTC2051IMS8#TR-ND; Supplier 2: Newark; Supplier Part Number 2: 56M4651; Packing: Reel; SR (V/us) Typical: 2; Type: ZD; Mounting Technology: Surface Mount; ComponentLink1Description: Manufacturer URL; ComponentLink1URL: http://www.linear.com/; ComponentLink2Description: Datasheet; ComponentLink2URL: http://cds.linear.com/docs/en/datasheet/20512fd.pdf; ComponentLink3Description: Package Specification; ComponentLink3URL: http://cds.linear.com/docs/en/packaging/05081610_G_SO8.pdf
footprint LT-MS8-8_N (SOP, 8-Leads, Body 3x3mm, Pitch 0.65mm, IPC Medium Density)
footprint LT-MS8-8_L (SOP, 8-Leads, Body 3x3mm, Pitch 0.65mm, IPC High Density)
footprint LT-MS8-8_M (SOP, 8-Leads, Body 3x3mm, Pitch 0.65mm, IPC Low Density)
pins on every part: 4 V- (power) "Positive Supply Voltage of Blue Channel Amplifi er. This pin is not internally connected to other supply voltage pins and must be externally connected to the supply voltage bus with proper bypassing for best performance, see (See Datasheet)", 8 V+ (power) "Positive Supply Voltage of Control Circuitry. This pin is not internally connected to other supply voltage pins and must be externally connected to supply voltage bus with proper bypassing for best performance, see Power (See Datasheet)"
part A pins: 1 OUT A (out), 2 -IN A (in), 3 +IN A (in)
part B pins: 5 +IN B (in), 6 -IN B (in), 7 OUT B (out)

## LTC2051IMS8#TRPBF
designator U?
Dual Channel, Zero-Drift Operational Amplifier, 3 MHz Typical GBW, 2 V/us Typical SR, 2.7 to 6 V, 8-Pin SOP (MS8-8), Industrial, Pb-Free, Reel; Linear Technology Part Number: LTC2051; Manufacturer: Linear Technology; PartNumber: LTC2051IMS8#TRPBF; Channels (#): 2; GBW (MHz) Typical: 3; Is (mA) Typical: 0.85; Vos (mV) Typical: 0.0005; Vs Max (V): 6; Vs Min (V): 2.7; DatasheetVersion: Rev. D; PackageVersion: Rev G; PackageReference: LT-MS8-8; PackageDescription: 8-Lead Plastic Small Outline, Body 3.9 x 4.9 mm, Pitch 1.27 mm; Supplier 1: Digi-Key; Supplier Part Number 1: LTC2051IMS8#TRPBF-ND; Supplier 2: Newark; Supplier Part Number 2: 56M4652; Packing: Reel; RoHS: Pb-Free; SR (V/us) Typical: 2; Type: ZD; Mounting Technology: Surface Mount; ComponentLink1Description: Manufacturer URL; ComponentLink1URL: http://www.linear.com/; ComponentLink2Description: Datasheet; ComponentLink2URL: http://cds.linear.com/docs/en/datasheet/20512fd.pdf; ComponentLink3Description: Package Specification; ComponentLink3URL: http://cds.linear.com/docs/en/packaging/05081610_G_SO8.pdf
footprint LT-MS8-8_N (SOP, 8-Leads, Body 3x3mm, Pitch 0.65mm, IPC Medium Density)
footprint LT-MS8-8_L (SOP, 8-Leads, Body 3x3mm, Pitch 0.65mm, IPC High Density)
footprint LT-MS8-8_M (SOP, 8-Leads, Body 3x3mm, Pitch 0.65mm, IPC Low Density)
pins on every part: 4 V- (power) "Positive Supply Voltage of Blue Channel Amplifi er. This pin is not internally connected to other supply voltage pins and must be externally connected to the supply voltage bus with proper bypassing for best performance, see (See Datasheet)", 8 V+ (power) "Positive Supply Voltage of Control Circuitry. This pin is not internally connected to other supply voltage pins and must be externally connected to supply voltage bus with proper bypassing for best performance, see Power (See Datasheet)"
part A pins: 1 OUT A (out), 2 -IN A (in), 3 +IN A (in)
part B pins: 5 +IN B (in), 6 -IN B (in), 7 OUT B (out)

## LTC2051IMS10
designator U?
Dual Channel, Zero-Drift Operational Amplifier, 3 MHz Typical GBW, 2 V/us Typical SR, 2.7 to 6 V, 10-Pin SOP (MS-10), Industrial; Linear Technology Part Number: LTC2051; Manufacturer: Linear Technology; PartNumber: LTC2051IMS10; Channels (#): 2; GBW (MHz) Typical: 3; Is (mA) Typical: 0.85; Vos (mV) Typical: 0.0005; Vs Max (V): 6; Vs Min (V): 2.7; DatasheetVersion: Rev. D; PackageVersion: Rev E; PackageReference: LT-MS-10; PackageDescription: 10-Lead Plastic MSOP, Body 3 x 3 mm, Pitch 0.5 mm; Supplier 1: Digi-Key; Supplier Part Number 1: LTC2051IMS10-ND; SR (V/us) Typical: 2; Type: ZD; Mounting Technology: Surface Mount; ComponentLink1Description: Manufacturer URL; ComponentLink1URL: http://www.linear.com/; ComponentLink2Description: Datasheet; ComponentLink2URL: http://cds.linear.com/docs/en/datasheet/20512fd.pdf; ComponentLink3Description: Package Specification; ComponentLink3URL: http://cds.linear.com/docs/en/packaging/MSOP_10_05-08-1661.pdf
footprint LT-MS-10_N (SOP, 10-Leads, Body 3x3mm, Pitch 0.50mm, IPC Medium Density)
footprint LT-MS-10_L (SOP, 10-Leads, Body 3x3mm, Pitch 0.50mm, IPC High Density)
footprint LT-MS-10_M (SOP, 10-Leads, Body 3x3mm, Pitch 0.50mm, IPC Low Density)
pins on every part: 4 V- (power), 10 V+ (power)
part A pins: 1 OUT A (hiz), 2 -IN A (in), 3 +IN A (in), 5 ~{SHDN A} (in)
part B pins: 6 ~{SHDN B} (in), 7 +IN B (in), 8 -IN B (in), 9 OUT B (hiz)

## LTC2051IMS10#PBF
designator U?
Dual Channel, Zero-Drift Operational Amplifier, 3 MHz Typical GBW, 2 V/us Typical SR, 2.7 to 6 V, 10-Pin SOP (MS-10), Industrial, Pb-Free; Linear Technology Part Number: LTC2051; Manufacturer: Linear Technology; PartNumber: LTC2051IMS10#PBF; Channels (#): 2; GBW (MHz) Typical: 3; Is (mA) Typical: 0.85; Vos (mV) Typical: 0.0005; Vs Max (V): 6; Vs Min (V): 2.7; DatasheetVersion: Rev. D; PackageVersion: Rev E; PackageReference: LT-MS-10; PackageDescription: 10-Lead Plastic MSOP, Body 3 x 3 mm, Pitch 0.5 mm; Supplier 1: Digi-Key; Supplier Part Number 1: LTC2051IMS10#PBF-ND; RoHS: Pb-Free; SR (V/us) Typical: 2; Type: ZD; Mounting Technology: Surface Mount; ComponentLink1Description: Manufacturer URL; ComponentLink1URL: http://www.linear.com/; ComponentLink2Description: Datasheet; ComponentLink2URL: http://cds.linear.com/docs/en/datasheet/20512fd.pdf; ComponentLink3Description: Package Specification; ComponentLink3URL: http://cds.linear.com/docs/en/packaging/MSOP_10_05-08-1661.pdf
footprint LT-MS-10_N (SOP, 10-Leads, Body 3x3mm, Pitch 0.50mm, IPC Medium Density)
footprint LT-MS-10_L (SOP, 10-Leads, Body 3x3mm, Pitch 0.50mm, IPC High Density)
footprint LT-MS-10_M (SOP, 10-Leads, Body 3x3mm, Pitch 0.50mm, IPC Low Density)
pins on every part: 4 V- (power), 10 V+ (power)
part A pins: 1 OUT A (hiz), 2 -IN A (in), 3 +IN A (in), 5 ~{SHDN A} (in)
part B pins: 6 ~{SHDN B} (in), 7 +IN B (in), 8 -IN B (in), 9 OUT B (hiz)

## LTC2051IMS10#TR
designator U?
Dual Channel, Zero-Drift Operational Amplifier, 3 MHz Typical GBW, 2 V/us Typical SR, 2.7 to 6 V, 10-Pin SOP (MS-10), Industrial, Reel; Linear Technology Part Number: LTC2051; Manufacturer: Linear Technology; PartNumber: LTC2051IMS10#TR; Channels (#): 2; GBW (MHz) Typical: 3; Is (mA) Typical: 0.85; Vos (mV) Typical: 0.0005; Vs Max (V): 6; Vs Min (V): 2.7; DatasheetVersion: Rev. D; PackageVersion: Rev E; PackageReference: LT-MS-10; PackageDescription: 10-Lead Plastic MSOP, Body 3 x 3 mm, Pitch 0.5 mm; Supplier 1: Digi-Key; Supplier Part Number 1: LTC2051IMS10#TR-ND; Packing: Reel; SR (V/us) Typical: 2; Type: ZD; Mounting Technology: Surface Mount; ComponentLink1Description: Manufacturer URL; ComponentLink1URL: http://www.linear.com/; ComponentLink2Description: Datasheet; ComponentLink2URL: http://cds.linear.com/docs/en/datasheet/20512fd.pdf; ComponentLink3Description: Package Specification; ComponentLink3URL: http://cds.linear.com/docs/en/packaging/MSOP_10_05-08-1661.pdf
footprint LT-MS-10_N (SOP, 10-Leads, Body 3x3mm, Pitch 0.50mm, IPC Medium Density)
footprint LT-MS-10_L (SOP, 10-Leads, Body 3x3mm, Pitch 0.50mm, IPC High Density)
footprint LT-MS-10_M (SOP, 10-Leads, Body 3x3mm, Pitch 0.50mm, IPC Low Density)
pins on every part: 4 V- (power), 10 V+ (power)
part A pins: 1 OUT A (hiz), 2 -IN A (in), 3 +IN A (in), 5 ~{SHDN A} (in)
part B pins: 6 ~{SHDN B} (in), 7 +IN B (in), 8 -IN B (in), 9 OUT B (hiz)

## LTC2051IMS10#TRPBF
designator U?
Dual Channel, Zero-Drift Operational Amplifier, 3 MHz Typical GBW, 2 V/us Typical SR, 2.7 to 6 V, 10-Pin SOP (MS-10), Industrial, Pb-Free, Reel; Linear Technology Part Number: LTC2051; Manufacturer: Linear Technology; PartNumber: LTC2051IMS10#TRPBF; Channels (#): 2; GBW (MHz) Typical: 3; Is (mA) Typical: 0.85; Vos (mV) Typical: 0.0005; Vs Max (V): 6; Vs Min (V): 2.7; DatasheetVersion: Rev. D; PackageVersion: Rev E; PackageReference: LT-MS-10; PackageDescription: 10-Lead Plastic MSOP, Body 3 x 3 mm, Pitch 0.5 mm; Supplier 1: Digi-Key; Supplier Part Number 1: LTC2051IMS10#TRPBF-ND; Packing: Reel; RoHS: Pb-Free; SR (V/us) Typical: 2; Type: ZD; Mounting Technology: Surface Mount; ComponentLink1Description: Manufacturer URL; ComponentLink1URL: http://www.linear.com/; ComponentLink2Description: Datasheet; ComponentLink2URL: http://cds.linear.com/docs/en/datasheet/20512fd.pdf; ComponentLink3Description: Package Specification; ComponentLink3URL: http://cds.linear.com/docs/en/packaging/MSOP_10_05-08-1661.pdf
footprint LT-MS-10_N (SOP, 10-Leads, Body 3x3mm, Pitch 0.50mm, IPC Medium Density)
footprint LT-MS-10_L (SOP, 10-Leads, Body 3x3mm, Pitch 0.50mm, IPC High Density)
footprint LT-MS-10_M (SOP, 10-Leads, Body 3x3mm, Pitch 0.50mm, IPC Low Density)
pins on every part: 4 V- (power), 10 V+ (power)
part A pins: 1 OUT A (hiz), 2 -IN A (in), 3 +IN A (in), 5 ~{SHDN A} (in)
part B pins: 6 ~{SHDN B} (in), 7 +IN B (in), 8 -IN B (in), 9 OUT B (hiz)

## LTC2051IS8
designator U?
Dual Channel, Zero-Drift Operational Amplifier, 3 MHz Typical GBW, 2 V/us Typical SR, 2.7 to 6 V, 8-Pin SOIC (S8-8), Industrial; Linear Technology Part Number: LTC2051; Manufacturer: Linear Technology; PartNumber: LTC2051IS8; Channels (#): 2; GBW (MHz) Typical: 3; Is (mA) Typical: 0.85; Vos (mV) Typical: 0.0005; Vs Max (V): 6; Vs Min (V): 2.7; DatasheetVersion: Rev. D; PackageVersion: Rev G; PackageReference: LT-S8-8; PackageDescription: 8-Pin Plastic Small Outline, Body 4.9 x 3.9 mm, Pitch 1.27 mm; Supplier 1: Digi-Key; Supplier Part Number 1: LTC2051IS8-ND; SR (V/us) Typical: 2; Type: ZD; Mounting Technology: Surface Mount; ComponentLink1Description: Manufacturer URL; ComponentLink1URL: http://www.linear.com/; ComponentLink2Description: Datasheet; ComponentLink2URL: http://cds.linear.com/docs/en/datasheet/20512fd.pdf; ComponentLink3Description: Package Specification; ComponentLink3URL: http://cds.linear.com/docs/en/packaging/05081610_G_SO8.pdf
footprint LT-S8-8_N (SOIC, 8-Leads, Body 4.9x3.9mm, Pitch 1.27mm, IPC Medium Density)
footprint LT-S8-8_L (SOIC, 8-Leads, Body 4.9x3.9mm, Pitch 1.27mm, IPC High Density)
footprint LT-S8-8_M (SOIC, 8-Leads, Body 4.9x3.9mm, Pitch 1.27mm, IPC Low Density)
pins on every part: 4 V- (power), 8 V+ (power)
part A pins: 1 OUT A (out), 2 -IN A (in), 3 +IN A (in)
part B pins: 5 +IN B (in), 6 -IN B (in), 7 OUT B (out)

## LTC2051IS8#PBF
designator U?
Dual Channel, Zero-Drift Operational Amplifier, 3 MHz Typical GBW, 2 V/us Typical SR, 2.7 to 6 V, 8-Pin SOIC (S8-8), Industrial, Pb-Free; Linear Technology Part Number: LTC2051; Manufacturer: Linear Technology; PartNumber: LTC2051IS8#PBF; Channels (#): 2; GBW (MHz) Typical: 3; Is (mA) Typical: 0.85; Vos (mV) Typical: 0.0005; Vs Max (V): 6; Vs Min (V): 2.7; DatasheetVersion: Rev. D; PackageVersion: Rev G; PackageReference: LT-S8-8; PackageDescription: 8-Pin Plastic Small Outline, Body 4.9 x 3.9 mm, Pitch 1.27 mm; Supplier 1: Digi-Key; Supplier Part Number 1: LTC2051IS8#PBF-ND; Supplier 2: Farnell; Supplier Part Number 2: 2294727; Supplier 3: Newark; Supplier Part Number 3: 56M4654; RoHS: Pb-Free; SR (V/us) Typical: 2; Type: ZD; Mounting Technology: Surface Mount; ComponentLink1Description: Manufacturer URL; ComponentLink1URL: http://www.linear.com/; ComponentLink2Description: Datasheet; ComponentLink2URL: http://cds.linear.com/docs/en/datasheet/20512fd.pdf; ComponentLink3Description: Package Specification; ComponentLink3URL: http://cds.linear.com/docs/en/packaging/05081610_G_SO8.pdf
footprint LT-S8-8_N (SOIC, 8-Leads, Body 4.9x3.9mm, Pitch 1.27mm, IPC Medium Density)
footprint LT-S8-8_L (SOIC, 8-Leads, Body 4.9x3.9mm, Pitch 1.27mm, IPC High Density)
footprint LT-S8-8_M (SOIC, 8-Leads, Body 4.9x3.9mm, Pitch 1.27mm, IPC Low Density)
pins on every part: 4 V- (power), 8 V+ (power)
part A pins: 1 OUT A (out), 2 -IN A (in), 3 +IN A (in)
part B pins: 5 +IN B (in), 6 -IN B (in), 7 OUT B (out)